# Altium schematic symbol library SCH - CONNECTORS - TE - BNC.SCHLIB: 1 symbol
Pins are listed as number, name and electrical type; pins without a type are passive.

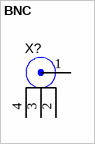
[diagram p0: symbol BNC]

## BNC
designator X?
ComponentLink1Description: Datasheet Link
pins: 1, 2, 3, 4